# Altium footprint library mh-cd42.PcbLib: 1 footprints
Each footprint in its own frame and in the unit in brackets; x right, y up, seen from the top. Pads: shape width x height; smd on the part's side, far side on the other; paste and mask are expansions set on the pad; w line width, h text height; cw(c..) or ccw(c..) is an arc to the next point about the centre after c.
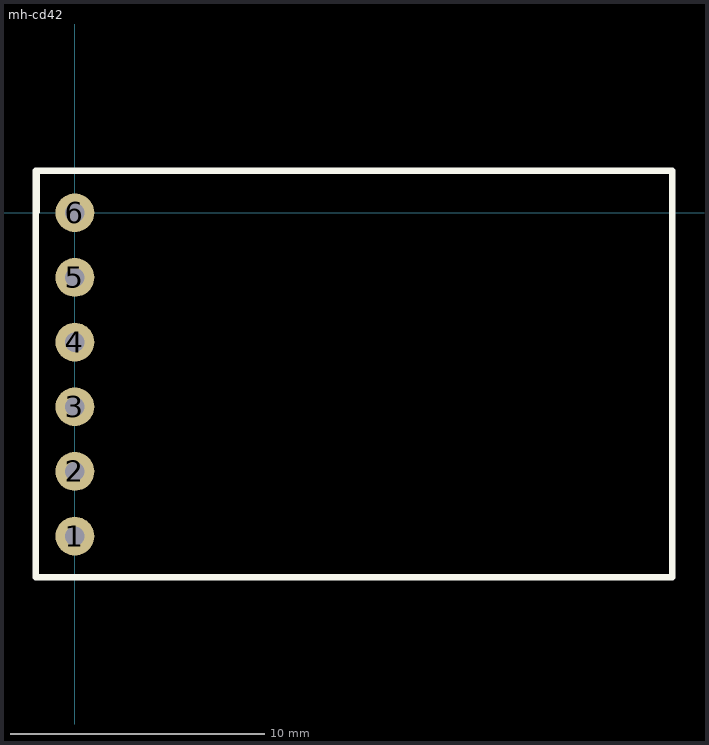
[diagram p0: the footprint, top view; thin cyan lines are the x and y axes]

## mh-cd42 [mil]
pads (6):
  round 60 hole 30: 1(0,-500) 2(0,-400) 3(0,-300) 4(0,-200) 5(0,-100) 6(0,0)
Top Overlay:
  lines w10: -59.06,1.34 -59.06,64.96 ; -59.06,64.96 923.68,64.96 923.68,-563.52 -60.43,-563.52 -60.43,64.96 -59.06,64.96
3D body "User Library-MachSacPin MH-CD45.STEP": height 177.17, standoff -334.65, extent -53.51,-564.96 930.74,65.12